# Altium footprint library WSON-8_6x8.PcbLib: 1 footprints
Each footprint in its own frame and in the unit in brackets; x right, y up, seen from the top. Pads: shape width x height; smd on the part's side, far side on the other; paste and mask are expansions set on the pad; w line width, h text height; cw(c..) or ccw(c..) is an arc to the next point about the centre after c.
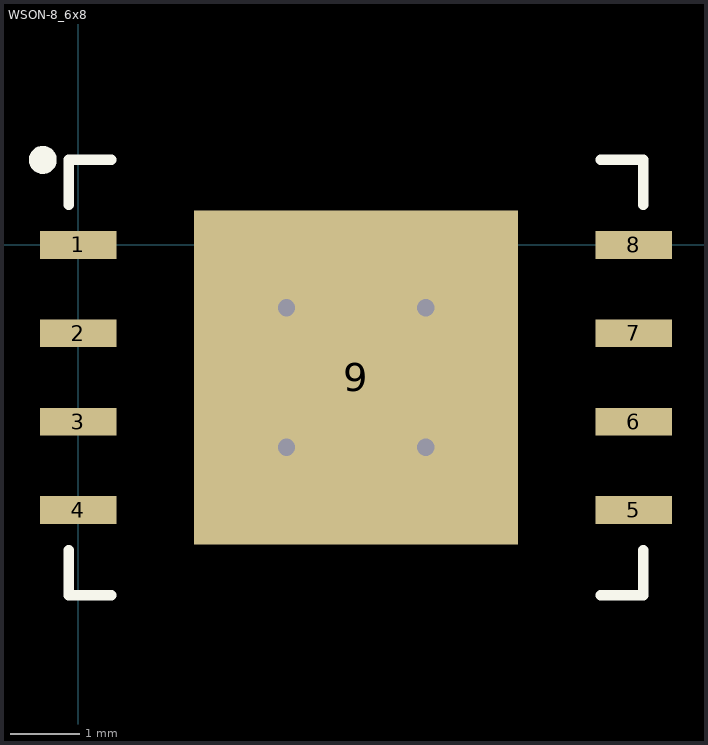
[diagram p0: the footprint, top view; thin cyan lines are the x and y axes]

## WSON-8_6x8 [mm] "SON, 8-Leads, Body 6,00x8,00mm, Pitch 1,27mm, Thermal Pad 4,80x4,65mm, IPC Medium Density"
height 0.8
pads (9):
  rect 1.1x0.4 smd: 1(0,0) 2(0,-1.27) 3(0,-2.54) 4(0,-3.81) 5(7.98,-3.81) 6(7.98,-2.54) 7(7.98,-1.27) 8(7.98,0)
  rect 4.65x4.8 smd paste-2.325: 9(3.99,-1.905)
via 2.99,-0.905 diameter 0.5 hole 0.25
via 4.99,-0.905 diameter 0.5 hole 0.25
via 4.99,-2.905 diameter 0.5 hole 0.25
via 2.99,-2.905 diameter 0.5 hole 0.25
Top Overlay:
  circle w0.2: c-0.51,1.22 r0.1
  lines w0.15: -0.135,-4.385 -0.135,-5.03 0.475,-5.03 ; -0.135,0.575 -0.135,1.22 0.475,1.22 ; 7.505,-5.03 8.115,-5.03 8.115,-4.385 ; 7.505,1.22 8.115,1.22 8.115,0.575
Top Paste:
  rectangle: 1.751,-1.619 3.751,0.381
  rectangle: 1.751,-4.191 3.751,-2.191
  rectangle: 4.196,-1.651 6.196,0.349
  rectangle: 4.196,-4.191 6.196,-2.191
3D body "WSON-8_6x8.step": height 0.8, standoff 0, extent -0.06,-4.905 8.04,1.095